# Altium footprint library SMD Fuse.PcbLib: 16 footprints
Each footprint in its own frame and in the unit in brackets; x right, y up, seen from the top. Pads: shape width x height; smd on the part's side, far side on the other; paste and mask are expansions set on the pad; w line width, h text height; cw(c..) or ccw(c..) is an arc to the next point about the centre after c.
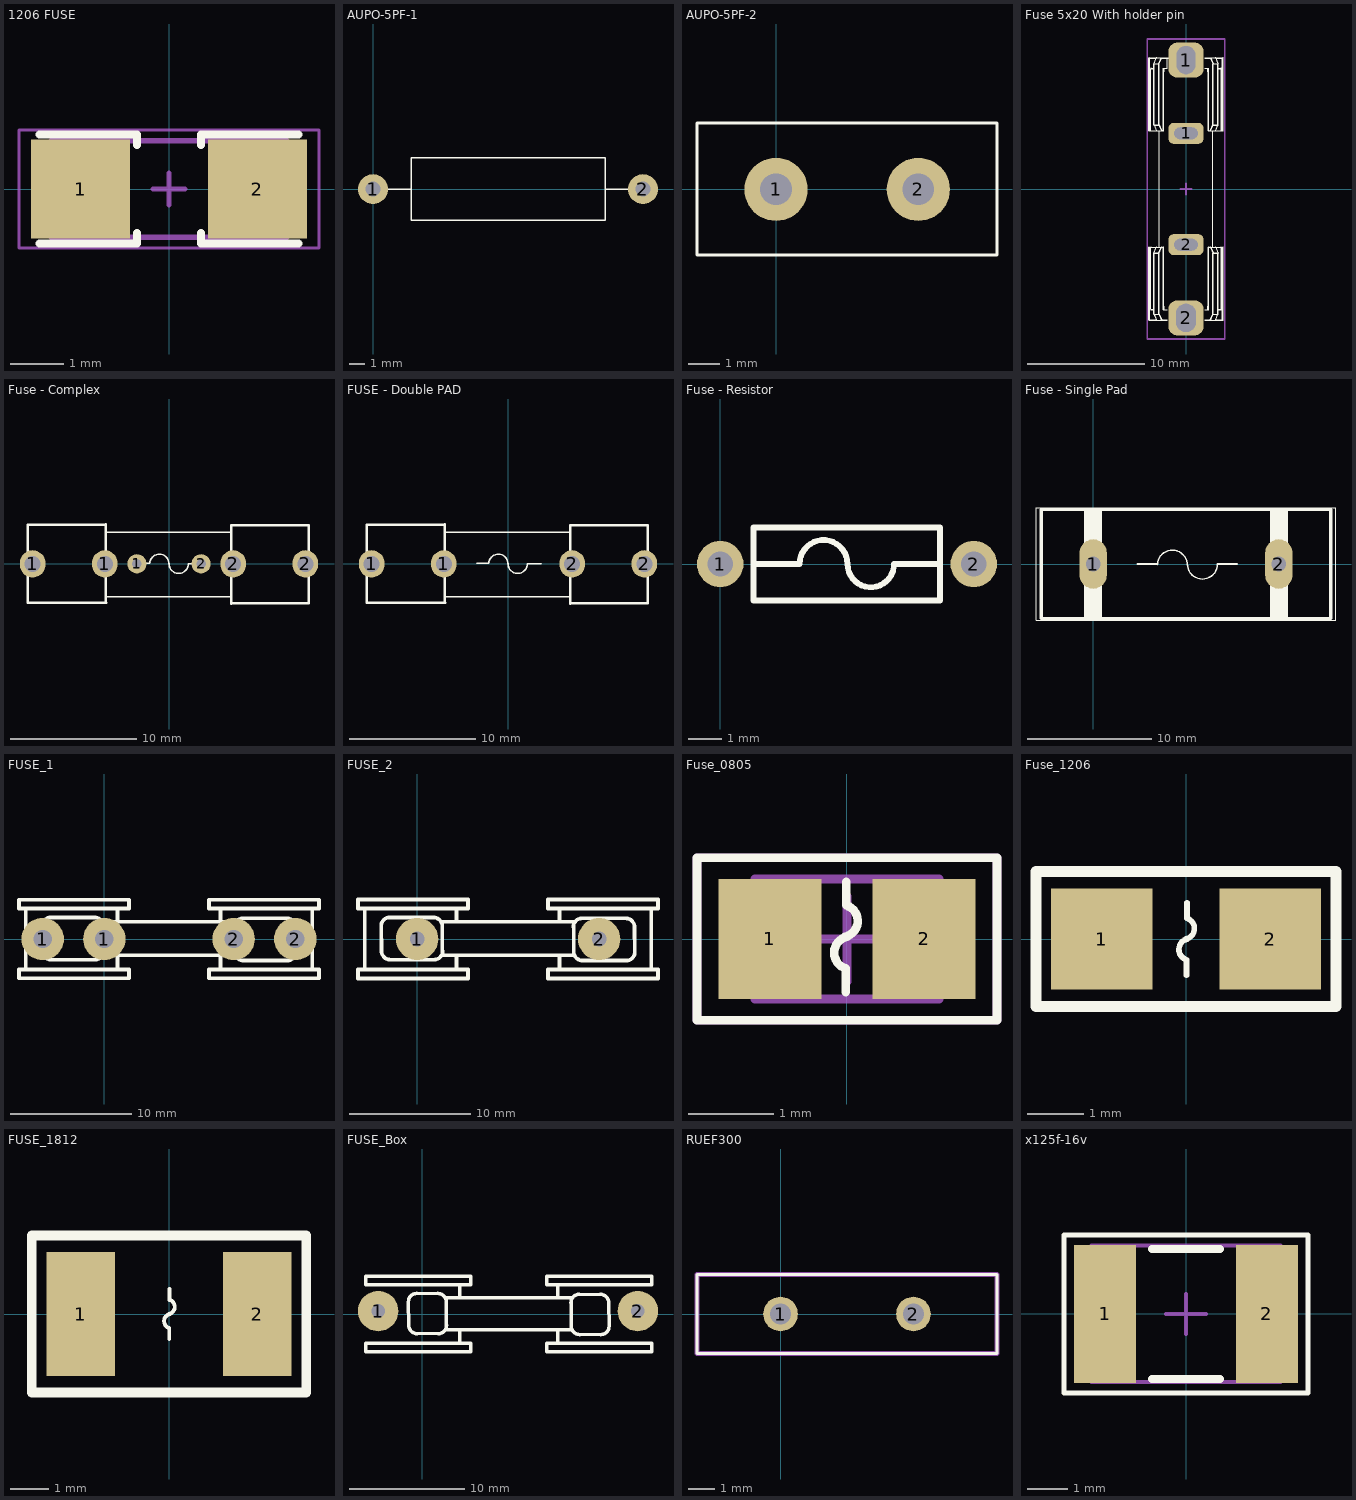
[diagram p0: the footprints below, top view; thin cyan lines are the x and y axes]

## 1206 FUSE [mm] "Fast Acting Smd 1206 non-Resettable Fuse Chip For Pcb Board-Design:Abbas Basereh"
height 1
pads (2):
  rect 1.85x1.85 smd: 1(-1.65,0) 2(1.65,0)
Top Overlay:
  lines w0.15: -2.413,-1.016 -0.6,-1.016 -0.6,-0.825 ; -2.413,1.016 -0.6,1.016 -0.6,0.825 ; 0.6,-0.825 0.6,-1.016 2.413,-1.016 ; 0.6,0.825 0.6,1.016 2.413,1.016
Mechanical 13:
  lines w0.1: -2.2,-0.9 2.2,-0.9 2.2,0.9 -2.2,0.9 -2.2,-0.9
Mechanical 15:
  lines w0.05: -2.8,-1.1 2.8,-1.1 2.8,1.1 -2.8,1.1 -2.8,-1.1
  lines w0.1: -0.3,0 0.3,0 ; 0,-0.3 0,0.3
3D body "User Library-FUSER_nanoSMD.STEP": height 1, standoff 0, extent -1.602,-0.8 1.603,0.8

## AUPO-5PF-1 [mm] "aupo p5f"
pads (2):
  round 2 hole 1: 1(0,0) 2(18,0)
Top Overlay:
  lines w0.1: 0,0 2.527,0 ; 15.473,0 18,0 ; 2.54,-2.075 15.473,-2.075 15.473,2.1 4.132,2.1 2.54,2.1 2.54,-2.075

## AUPO-5PF-2 [mm] "aupo p5f"
pads (2):
  round 2 hole 1: 1(0,0) 2(4.5,0)
Top Overlay:
  lines w0.1: -2.5,-2.075 6.987,-2.075 6.987,2.1 -0.325,2.1 -2.5,2.1 -2.5,-2.075

## Fuse 5x20 With holder pin [mm] "Dsigner : Abbas Basereh"
height 8
pads (4):
  rrect50% 3x1.8 hole 1 slot 2 at 0 deg: 1(0,4.75) 2(0,-4.75)
  rrect50% 3x3 hole 1.6 slot 2.4 at 90 deg: 1(0,11)
  rrect50% 3x3 hole 1.7 slot 2.4 at 90 deg: 2(0,-11)
Top Overlay:
  drawing of 353 lines, arcs and shapes, not listed
Mechanical 15:
  lines w0.15: -0.5,0 0.5,0 ; 0,-0.5 0,0.5 ; -3.3,-12.8 -3.3,12.8 3.3,12.8 3.3,-12.8 -3.3,-12.8
3D body "User Library-Clips FC-201 with fuse 5x20.STEP": height 8.63, standoff -3.56, extent -3.173,-11.689 3.174,11.689

## Fuse - Complex [mil]
pads (6):
  oval 80x85 hole 50: 1(-425,0) 1(-200,0) 2(200,0) 2(425,0)
  round 60 hole 30: 1(-100,0) 2(100,0)
Top Overlay:
  lines w3.94: -197.37,99.1 194.69,99.1 ; -197.05,-102 194.69,-102
  lines w5: -97.77,1.22 -59.98,1.22 ; -59.97,1.22 cw(c-30,0) 0,0 ccw(c30,0) 60,0 104.09,0
  lines w7.87: -197.44,122.64 -197.05,0.2 -197.05,-121.06 ; -197.05,122.24 -440,122.24 -440,-121.46 -195.87,-121.46 ; 193.9,-123.43 435,-123.43 435,120.28 198.23,120.28 ; 194.69,-123.82 194.69,119.88
3D body "Fuse Leg_2009.STEP": height 377.88, standoff -129.94, extent 196,-119 436,124.71
3D body "Fuse Small 1A.STEP": height 350.39, standoff 149.61, extent -392,-101 383.59,99.79
3D body "Fuse Leg_2009.STEP": height 377.88, standoff -129.94, extent -434,-121.46 -194,122.25

## FUSE - Double PAD [mil]
pads (4):
  oval 80x85 hole 50: 1(-425,0) 1(-200,0) 2(200,0) 2(425,0)
Top Overlay:
  lines w3.94: -197.37,99.1 194.69,99.1 ; -197.05,-102 194.69,-102
  lines w5: -97.77,1.22 -59.98,1.22 ; -59.97,1.22 cw(c-30,0) 0,0 ccw(c30,0) 60,0 104.09,0
  lines w7.87: -197.44,122.64 -197.05,0.2 -197.05,-121.06 ; -197.05,122.24 -440,122.24 -440,-121.46 -195.87,-121.46 ; 193.9,-123.43 435,-123.43 435,120.28 198.23,120.28 ; 194.69,-123.82 194.69,119.88
3D body "Fuse Leg_2009.STEP": height 377.88, standoff -129.94, extent -434,-121.46 -194,122.25
3D body "Fuse Small 1A.STEP": height 350.39, standoff 149.61, extent -392,-101 383.59,99.79
3D body "Fuse Leg_2009.STEP": height 377.88, standoff -129.94, extent 196,-119 436,124.71

## Fuse - Resistor [mil]
pads (2):
  round 55 hole 30: 1(0,0) 2(300,0)
Top Overlay:
  lines w7: 39.37,0 93.81,0 cw(c122.2,0) 150.59,0 ccw(c178.15,0) 205.71,0 259.84,0
  lines w7.09: 39.37,-43.31 39.37,43.31 259.84,43.31 259.84,-43.31 39.37,-43.31

## Fuse - Single Pad [mm]
height 14
pads (2):
  oval 2.2x4 hole 1.2: 1(0,0) 2(15,0)
Top Overlay:
  rectangle: -0.74,-4.4 0.71,4.4
  rectangle: 14.29,-4.4 15.74,4.4
  lines w0.08: -4.62,-4.56 19.62,-4.56 19.62,4.56 -4.62,4.56 -4.62,-4.56
  lines w0.127: 5.178,-0.05 cw(c6.393,-0.1) 7.61,-0.1 ; 7.61,0 ccw(c8.827,0) 10.043,0
  lines w0.2: 3.6,0 5.17,0 ; 10.07,0 11.6,0
  lines w0.254: -4.2,-4.4 19.2,-4.4 19.2,4.4 -4.2,4.4 -4.2,-4.4

## FUSE_1 [mm]
pads (4):
  round 3.5 hole 1.5: 1(-5.08,0) 1(0,0) 2(10.668,0) 2(15.748,0)
Top Overlay:
  lines w0.3: -7.036,3.226 -7.036,2.515 2.032,2.515 2.032,3.251 -7.036,3.251 ; -6.477,-2.515 -6.477,2.515 ; -4.521,-1.702 -0.635,-1.702 ; -4.369,-1.702 cw(c-4.369,-0.965) -5.105,-0.965 -5.131,1.067 cw(c-4.42,1.067) -4.42,1.778 -3.353,1.778 -0.813,1.778 cw(c-0.813,1.041) -0.076,1.041 -0.076,-0.991 ; -0.762,-1.702 ccw(c-0.762,-0.991) -0.051,-0.991 ; -0.178,1.422 10.871,1.422 ; -0.152,-1.346 10.795,-1.346 ; 1.092,-2.464 1.092,-1.346 ; 1.092,1.448 1.092,2.489 ; 2.032,-3.251 -7.036,-3.251 -7.036,-2.515 2.032,-2.515 2.032,-3.226 ; 8.636,3.226 8.636,2.515 17.704,2.515 17.704,3.251 8.636,3.251 ; 9.576,-2.489 9.576,-1.346 ; 9.576,1.422 9.576,2.464 ; 10.719,0.991 cw(c11.43,0.991) 11.43,1.702 ; 10.744,0.991 10.744,-1.041 ccw(c11.481,-1.041) 11.481,-1.778 14.021,-1.778 15.088,-1.778 ccw(c15.088,-1.067) 15.799,-1.067 15.773,0.965 ccw(c15.037,0.965) 15.037,1.702 ; 11.303,1.702 15.189,1.702 ; 17.145,-2.515 17.145,2.515 ; 17.704,-3.251 8.636,-3.251 8.636,-2.515 17.704,-2.515 17.704,-3.226
3D body "User Library-FUSECLIP.STEP": height 11.42, standoff -3, extent 10.432,-3.902 16.036,3.801
3D body "User Library-FUSECLIP.STEP": height 11.42, standoff -3, extent -5.316,-3.902 0.288,3.801

## FUSE_2 [mm]
pads (2):
  round 3.5 hole 1.2: 1(0,0) 2(15.011,0)
Top Overlay:
  lines w0.305: -4.877,3.226 -4.877,2.515 4.191,2.515 4.191,3.251 -4.877,3.251 ; -4.318,-2.515 -4.318,2.515 ; -2.362,-1.702 1.524,-1.702 ; -2.21,-1.702 cw(c-2.21,-0.965) -2.946,-0.965 -2.972,1.067 cw(c-2.261,1.067) -2.261,1.778 -1.194,1.778 1.346,1.778 cw(c1.346,1.041) 2.083,1.041 2.083,-0.991 ; 1.397,-1.702 ccw(c1.397,-0.991) 2.108,-0.991 ; 1.981,1.422 13.03,1.422 ; 2.007,-1.346 12.954,-1.346 ; 3.251,-2.464 3.251,-1.346 ; 3.251,1.448 3.251,2.489 ; 4.191,-3.251 -4.877,-3.251 -4.877,-2.515 4.191,-2.515 4.191,-3.226 ; 10.795,3.226 10.795,2.515 19.863,2.515 19.863,3.251 10.795,3.251 ; 11.735,-2.489 11.735,-1.346 ; 11.735,1.422 11.735,2.464 ; 12.878,0.991 cw(c13.589,0.991) 13.589,1.702 ; 12.903,0.991 12.903,-1.041 ccw(c13.64,-1.041) 13.64,-1.778 16.18,-1.778 17.247,-1.778 ccw(c17.247,-1.067) 17.958,-1.067 17.932,0.965 ccw(c17.196,0.965) 17.196,1.702 ; 13.462,1.702 17.348,1.702 ; 19.304,-2.515 19.304,2.515 ; 19.863,-3.251 10.795,-3.251 10.795,-2.515 19.863,-2.515 19.863,-3.226

## Fuse_0805 [mm]
height 2
pads (2):
  rect 1.2x1.4 smd: 1(-0.9,0) 2(0.9,0)
Top Overlay:
  lines w0.1: -0.024,0.025 ccw(c-0.065,0.211) -0.007,0.392 -0.007,0.668 ; -0.016,-0.618 -0.016,-0.342 cw(c0.04,-0.161) 0,0.025 ; -1.75,-0.95 1.75,-0.95 1.75,0.95 -1.75,0.95 -1.75,-0.95
Mechanical 13:
  lines w0.1: -1.075,-0.7 -1.075,0.7 1.075,0.7 1.075,-0.7 -1.075,-0.7
Mechanical 15:
  lines w0.1: -0.5,0 0.5,0 ; 0,-0.5 0,0.5 ; -1.75,-0.95 -1.75,0.95 1.75,0.95 1.75,-0.95 -1.75,-0.95
3D body: height 0.7, standoff 0, extent -1.075,-0.7 1.075,0.7

## Fuse_1206 [mm]
pads (2):
  rect 1.8x1.8 smd: 1(-1.5,0) 2(1.5,0)
Top Overlay:
  lines w0.1: 0,0 ccw(c-0.041,0.186) 0.017,0.367 0.017,0.643 ; 0.008,-0.643 0.008,-0.367 cw(c0.064,-0.186) 0.024,0
  lines w0.2: -2.667,-1.2 -2.667,1.2 2.667,1.2 2.667,-1.2 -2.667,-1.2
3D body "User Library-FUSER_nanoSMD.STEP": height 1, standoff 0, extent -1.602,-0.8 1.603,0.8

## FUSE_1812 [mil]
height 59.06
pads (2):
  rect 70x126 smd: 1(-90,0) 2(90,0)
Top Overlay:
  lines w3.94: 0,0 ccw(c-1.62,7.32) 0.68,14.46 0.68,25.32 ; 0.31,-25.32 0.31,-14.46 cw(c2.51,-7.31) 0.95,0
  lines w10: -140,-80 140,-80 140,80 -140,80 -140,-80
3D body "fuse1812.step": height 51.97, standoff 0, extent -94.88,-63.38 94.89,63.39

## FUSE_Box [mm]
pads (2):
  round 3.5 hole 1.2: 1(-3.81,0.254) 2(18.669,0.254)
Top Overlay:
  lines w0.254: -0.483,1.778 1.346,1.778 ; -0.432,-1.702 1.397,-1.702 ; 13.589,1.702 15.418,1.702 ; 13.64,-1.778 15.469,-1.778
  lines w0.305: -4.877,3.226 -4.877,2.515 4.191,2.515 4.191,3.251 -4.877,3.251 ; -0.483,1.778 ccw(c-0.483,1.067) -1.194,1.067 -1.168,-0.965 ccw(c-0.432,-0.965) -0.432,-1.702 ; 1.346,1.778 cw(c1.346,1.041) 2.083,1.041 2.083,-0.991 ; 1.397,-1.702 ccw(c1.397,-0.991) 2.108,-0.991 ; 1.981,1.422 13.03,1.422 ; 2.007,-1.346 12.954,-1.346 ; 3.251,-2.464 3.251,-1.346 ; 3.251,1.448 3.251,2.489 ; 4.191,-3.251 -4.877,-3.251 -4.877,-2.515 4.191,-2.515 4.191,-3.226 ; 10.795,3.226 10.795,2.515 19.863,2.515 19.863,3.251 10.795,3.251 ; 11.735,-2.489 11.735,-1.346 ; 11.735,1.422 11.735,2.464 ; 12.878,0.991 cw(c13.589,0.991) 13.589,1.702 ; 12.903,0.991 12.903,-1.041 ccw(c13.64,-1.041) 13.64,-1.778 ; 15.418,1.702 cw(c15.418,0.965) 16.154,0.965 16.18,-1.067 cw(c15.469,-1.067) 15.469,-1.778 ; 19.863,-3.251 10.795,-3.251 10.795,-2.515 19.863,-2.515 19.863,-3.226
3D body "User Library-FHP-105.STEP": height 11.8, standoff -2, extent -4.656,-4.784 19.544,5.016

## RUEF300 [mm]
pads (2):
  round 1.316 hole 0.81: 1(0,0) 2(5.05,0)
Top Overlay:
  lines w0.1: -3.175,-1.5 -3.175,1.5 8.225,1.5 8.225,-1.5 -3.175,-1.5
Mechanical 15:
  lines w0.2: -3.175,-1.5 -3.175,1.5 8.225,1.5 8.225,-1.5 -3.175,-1.5
3D body "RUEF300.stp": height 16.1, standoff -5, extent -3.175,-1.5 8.225,1.5

## x125f-16v [mm] "Chip Resistor, 2-Leads, Body 4.5x3.2mm, IPC Medium Density"
height 0.6
pads (2):
  rect 1.55x3.45 smd: 1(-2.025,0) 2(2.025,0)
Top Overlay:
  lines w0.127: -3.048,-1.98 3.048,-1.98 3.048,1.967 -3.048,1.967 -3.048,-1.98
  lines w0.2: -0.85,-1.625 0.85,-1.625 ; -0.85,1.625 0.85,1.625
Mechanical 13:
  lines w0.1: -2.365,-1.705 2.365,-1.705 2.365,1.705 -2.365,1.705 -2.365,-1.705
Mechanical 15:
  lines w0.1: -0.5,0 0.5,0 ; 0,-0.5 0,0.5 ; -3.05,-1.975 3.05,-1.975 3.05,1.975 -3.05,1.975 -3.05,-1.975
3D body "MINIASMDC075F-2.stp": height 0.62, standoff 0, extent -2.276,-1.625 2.276,1.625